# EAGLE library part C64_TAPE (library sj_commodore)
C64 Tape Pads
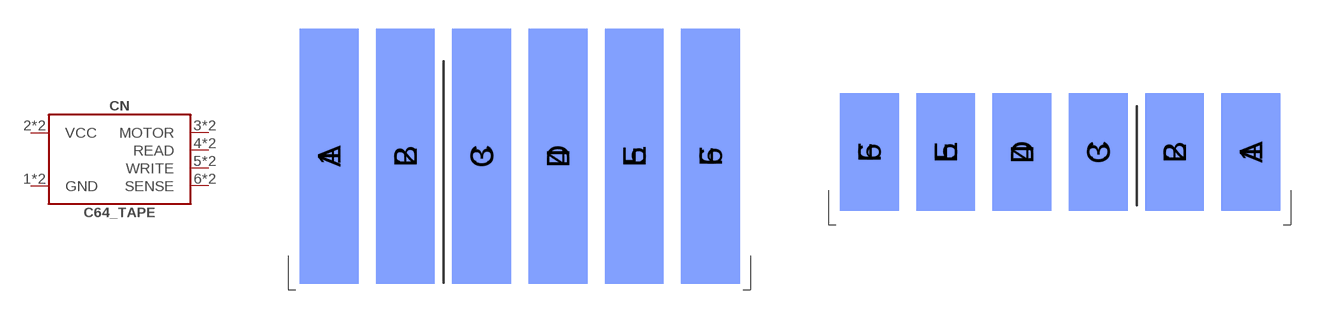
[diagram p1: symbol with the pads of C64_TAPE_SIDE; footprints C64_TAPE_SIDE, C64_TAPE_PADS]

Designator prefix CN

## C64_TAPE_SIDE  [C64_TAPE_SIDE]
1  GND  pwr
2  VCC  pwr
3  MOTOR
4  READ
5  WRITE
6  SENSE
A  GND  pwr
B  VCC  pwr
C  MOTOR
D  READ
E  WRITE
F  SENSE

## C64_TAPE_PADS  [C64_TAPE_PADS]
Pads as for C64_TAPE_SIDE

## Footprint C64_TAPE_SIDE (pad centres in mm)
C64 Datasette Pads Package
smd 3.048 x 13.208: 1 -9.873,-1.241; 2 -5.913,-1.241; 3 -1.953,-1.241; 4 2.007,-1.241; 5 5.967,-1.241; 6 9.927,-1.241
smd 3.048 x 13.208 bottom: A -9.873,-1.241; B -5.913,-1.241; C -1.953,-1.241; D 2.007,-1.241; E 5.967,-1.241; F 9.927,-1.241

## Footprint C64_TAPE_PADS (pad centres in mm)
C64 Datasette Solder Package
smd 3.048 x 6.096: 1 9.927,-3.781; 2 5.967,-3.781; 3 2.007,-3.781; 4 -1.953,-3.781; 5 -5.913,-3.781; 6 -9.873,-3.781
smd 3.048 x 6.096 bottom: A 9.927,-3.781; B 5.967,-3.781; C 2.007,-3.781; D -1.953,-3.781; E -5.913,-3.781; F -9.873,-3.781